# Altium footprint library SOT-223.PcbLib: 1 footprints
Each footprint in its own frame and in the unit in brackets; x right, y up, seen from the top. Pads: shape width x height; smd on the part's side, far side on the other; paste and mask are expansions set on the pad; w line width, h text height; cw(c..) or ccw(c..) is an arc to the next point about the centre after c.
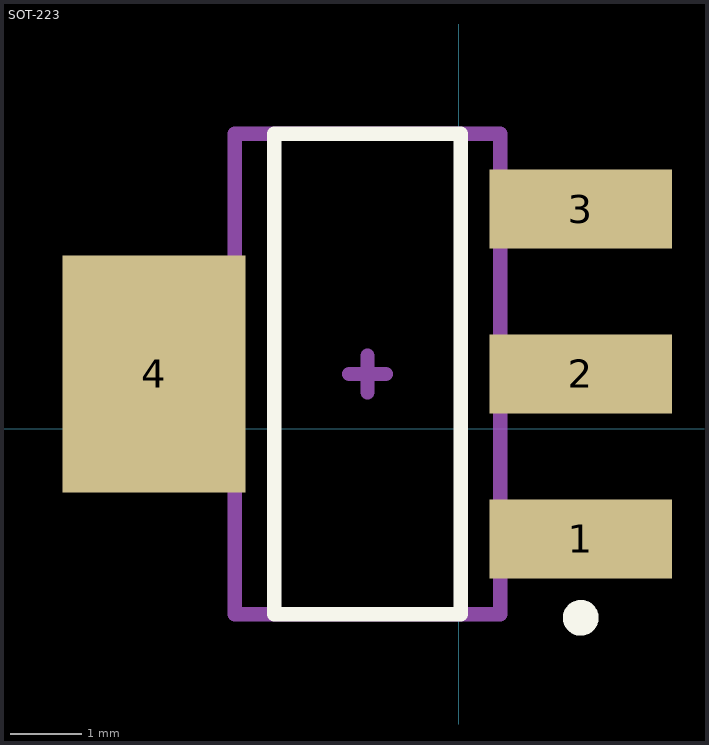
[diagram p0: the footprint, top view; thin cyan lines are the x and y axes]

## SOT-223 [mm] "SOT223, 4-Leads, Body 6,7x7,3mm (max), Pitch 2,30mm, IPC Medium Density"
height 1.8
pads (4):
  rect 2.55x1.1 smd: 1(1.705,-1.538) 2(1.705,0.762) 3(1.705,3.062)
  rect 2.55x3.3 smd: 4(-4.245,0.762)
Top Overlay:
  circle w0.25: c1.705,-2.638 r0.125
  lines w0.2: -2.57,-2.588 -2.57,4.112 0.03,4.112 0.03,-2.588 -2.57,-2.588
Mechanical 13:
  lines w0.2: -3.12,-2.588 -3.12,4.112 0.58,4.112 0.58,-2.588 -3.12,-2.588
  text ".Designator" at -0.889,2.032 h2.5
Mechanical 15:
  lines w0.2: -1.524,0.762 -1.016,0.762 ; -1.27,0.508 -1.27,1.016
3D body: height 1.6, standoff -0.05, extent -4.826,-2.488 2.174,4.012